# Altium integrated library BLE112-A-V1C.IntLib: 1 symbol
Pins are listed as number, name and electrical type; pins without a type are passive.

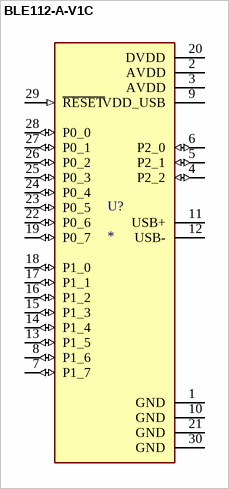
[diagram p0: symbol BLE112-A-V1C]

## BLE112-A-V1C
designator U?
Low Energy Bluetooth Module; MP: BLE112-A-V1C; Package: None; Price: None; Value: *; Availability: Unavailable
footprint BLUEGIGA_BLE112-A
pins: 1 GND (power), 2 AVDD (power), 3 AVDD (power), 4 P2_2 (io), 5 P2_1 (io), 6 P2_0 (io), 7 P1_7 (io), 8 P1_6 (io), 9 VDD_USB (power), 10 GND (power), 11 USB+, 12 USB-, 13 P1_5 (io), 14 P1_4 (io), 15 P1_3 (io), 16 P1_2 (io), 17 P1_1 (io), 18 P1_0 (io), 19 P0_7 (io), 20 DVDD (power), 21 GND (power), 22 P0_6 (io), 23 P0_5 (io), 24 P0_4 (io), 25 P0_3 (io), 26 P0_2 (io), 27 P0_1 (io), 28 P0_0 (io), 29 ~{RESET} (in), 30 GND (power)